# Altium schematic symbol library simple.SchLib: 10 symbols
Pins are listed as number, name and electrical type; pins without a type are passive.

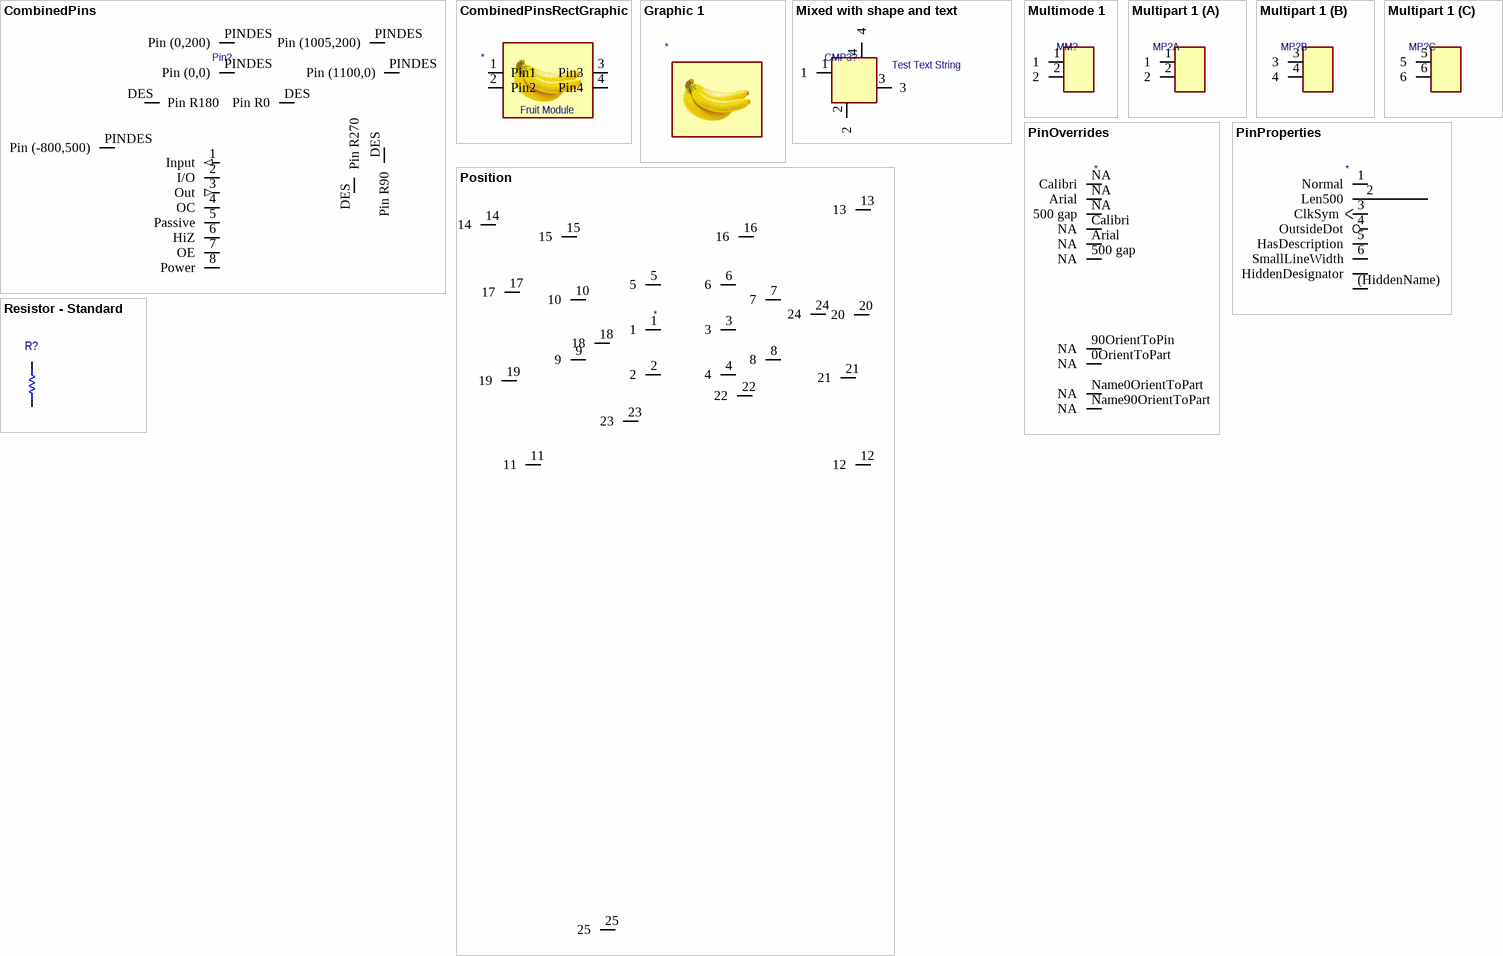
[diagram p0: symbols CombinedPins to Resistor - Standard]

## CombinedPins
designator Pin?
Single passive pin at (0,0) with 0 rotation
pins: 1 Input (in), 2 I/O (io), 3 Out (out), 4 OC (oc), 5 Passive, 6 HiZ (hiz), 7 OE (oe), 8 Power (power), DES Pin R0, DES Pin R90, DES Pin R270, DES Pin R180, PINDES Pin (0,0), PINDES Pin (0,200), PINDES Pin (1100,0), PINDES Pin (1005,200), PINDES Pin (-800,500)

## CombinedPinsRectGraphic
designator *  (value not drawn)
Bananas on rectangle with four labeled passive pins and centered text
pins: 1 Pin1 (power), 2 Pin2 (power), 3 Pin3 (power), 4 Pin4 (power)
text: Fruit Module

## Graphic 1
designator *  (value not drawn)
Bananas on rectangle

## Mixed with shape and text
designator CMP3?
Pins, rectangle, and text string.
pins: 1 (power), 2 (power), 3 (power), 4 (power)
text: Test Text String

## Multimode 1
designator MM?, comment Multimodal part  (value not drawn)
Sample multiview component
pins: 1 (power), 2 (power)
1 alternate drawing of the same symbol

## Multipart 1
designator MP?, comment Multipart component  (value not drawn)
Sample multipart component
part A pins: 1 (power), 2 (power)
part B pins: 3 (power), 4 (power)
part C pins: 5 (power), 6 (power)

## PinOverrides
designator *  (value not drawn)
Override pin font/position settings
pins: 0OrientToPart NA (power), 90OrientToPin NA (power), 500 gap NA (power), Arial NA (power), Calibri NA (power), NA Calibri (power), NA Arial (power), NA 500 gap (power), Name0OrientToPart NA (power), Name90OrientToPart NA (power)

## PinProperties
designator *  (value not drawn)
pins: 1 Normal, 2 Len500, 3 ClkSym, 4 OutsideDot, 5 HasDescription "This is a description", 6 SmallLineWidth, 7 HiddenDesignator, (HiddenName) HiddenName

## Position
designator *  (value not drawn)
pins: 1, 2, 3, 4, 5, 6, 7, 8, 9, 10, 11, 12, 13, 14, 15, 16, 17, 18, 19, 20, 21, 22, 23, 24, 25, 26, 27

## Resistor - Standard
designator R?  (value not drawn)
pins: 1, 2